# EAGLE library part 6PIN-03536? (library RoboJackets-Connectors)
Description: Connector Header Through Hole, 6 position 0.079" (2.00mm) Link H: Digi-Key <https://www.digikey.com/products/en?keywords=0353630660> Link V: Digi-Key <https://www.digikey.com/products/en?keywords=0353620650>
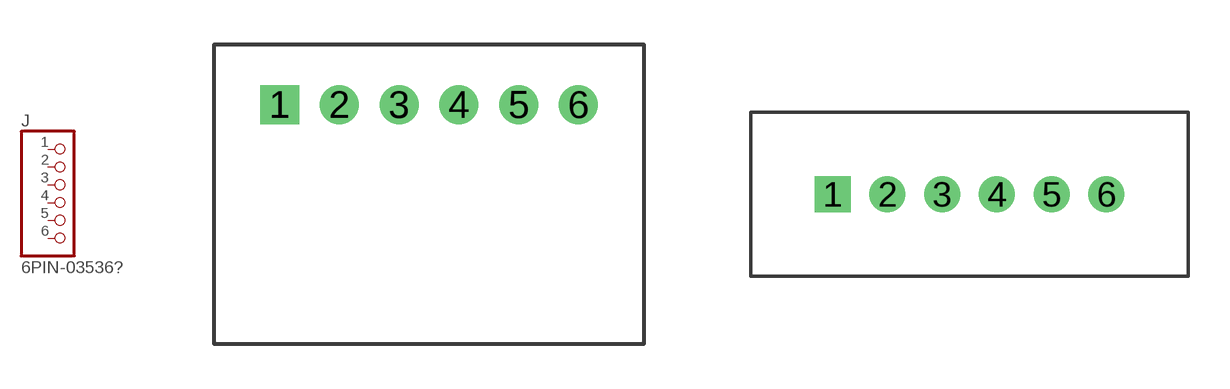
[diagram p0: symbol with the pads of 0353630660; footprints 0353630660, 0353620650]

Designator prefix J

## 6PIN-0353630660 (DKPN: WM18935-ND)  [0353630660]
1  1  pas
2  2  pas
3  3  pas
4  4  pas
5  5  pas
6  6  pas

## 6PIN-0353620650 (DKPN: WM18924-ND)  [0353620650]
Pads as for 0353630660

## Footprint 0353630660 (pad centres in mm)
drill 0.8 square: 1 -4,0
drill 0.8: 2 -2,0; 3 0,0; 4 2,0; 5 4,0; 6 6,0

## Footprint 0353620650 (pad centres in mm)
drill 0.8 square: 1 -4,0
drill 0.8: 2 -2,0; 3 0,0; 4 2,0; 5 4,0; 6 6,0